# Altium schematic symbol library 104JT-025.SchLib: 1 symbol
Pins are listed as number, name and electrical type; pins without a type are passive.

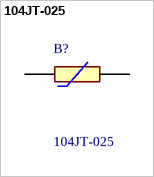
[diagram p0: symbol 104JT-025]

## 104JT-025
designator B?
NTC THERMISTORS 100KOHM 1% LENGT; Manufacturer_Name: Semitec; Geometry.Height: 22mm; Mouser Part Number: 954-104JT-025; Mouser Price/Stock: https://www.mouser.co.uk/ProductDetail/Semitec/104JT-025?qs=%252B6g0mu59x7KTJiBhCe3nqw%3D%3D; Manufacturer_Part_Number: 104JT-025; Datasheet Link: https://www.semitec-global.com/uploads/2022/01/P9-JT-Thermistor.pdf
footprint 104JT025
pins: 1, 2